# Altium schematic symbol library UP-ROBOT Devices.SchLib: 103 symbols
Pins are listed as number, name and electrical type; pins without a type are passive.

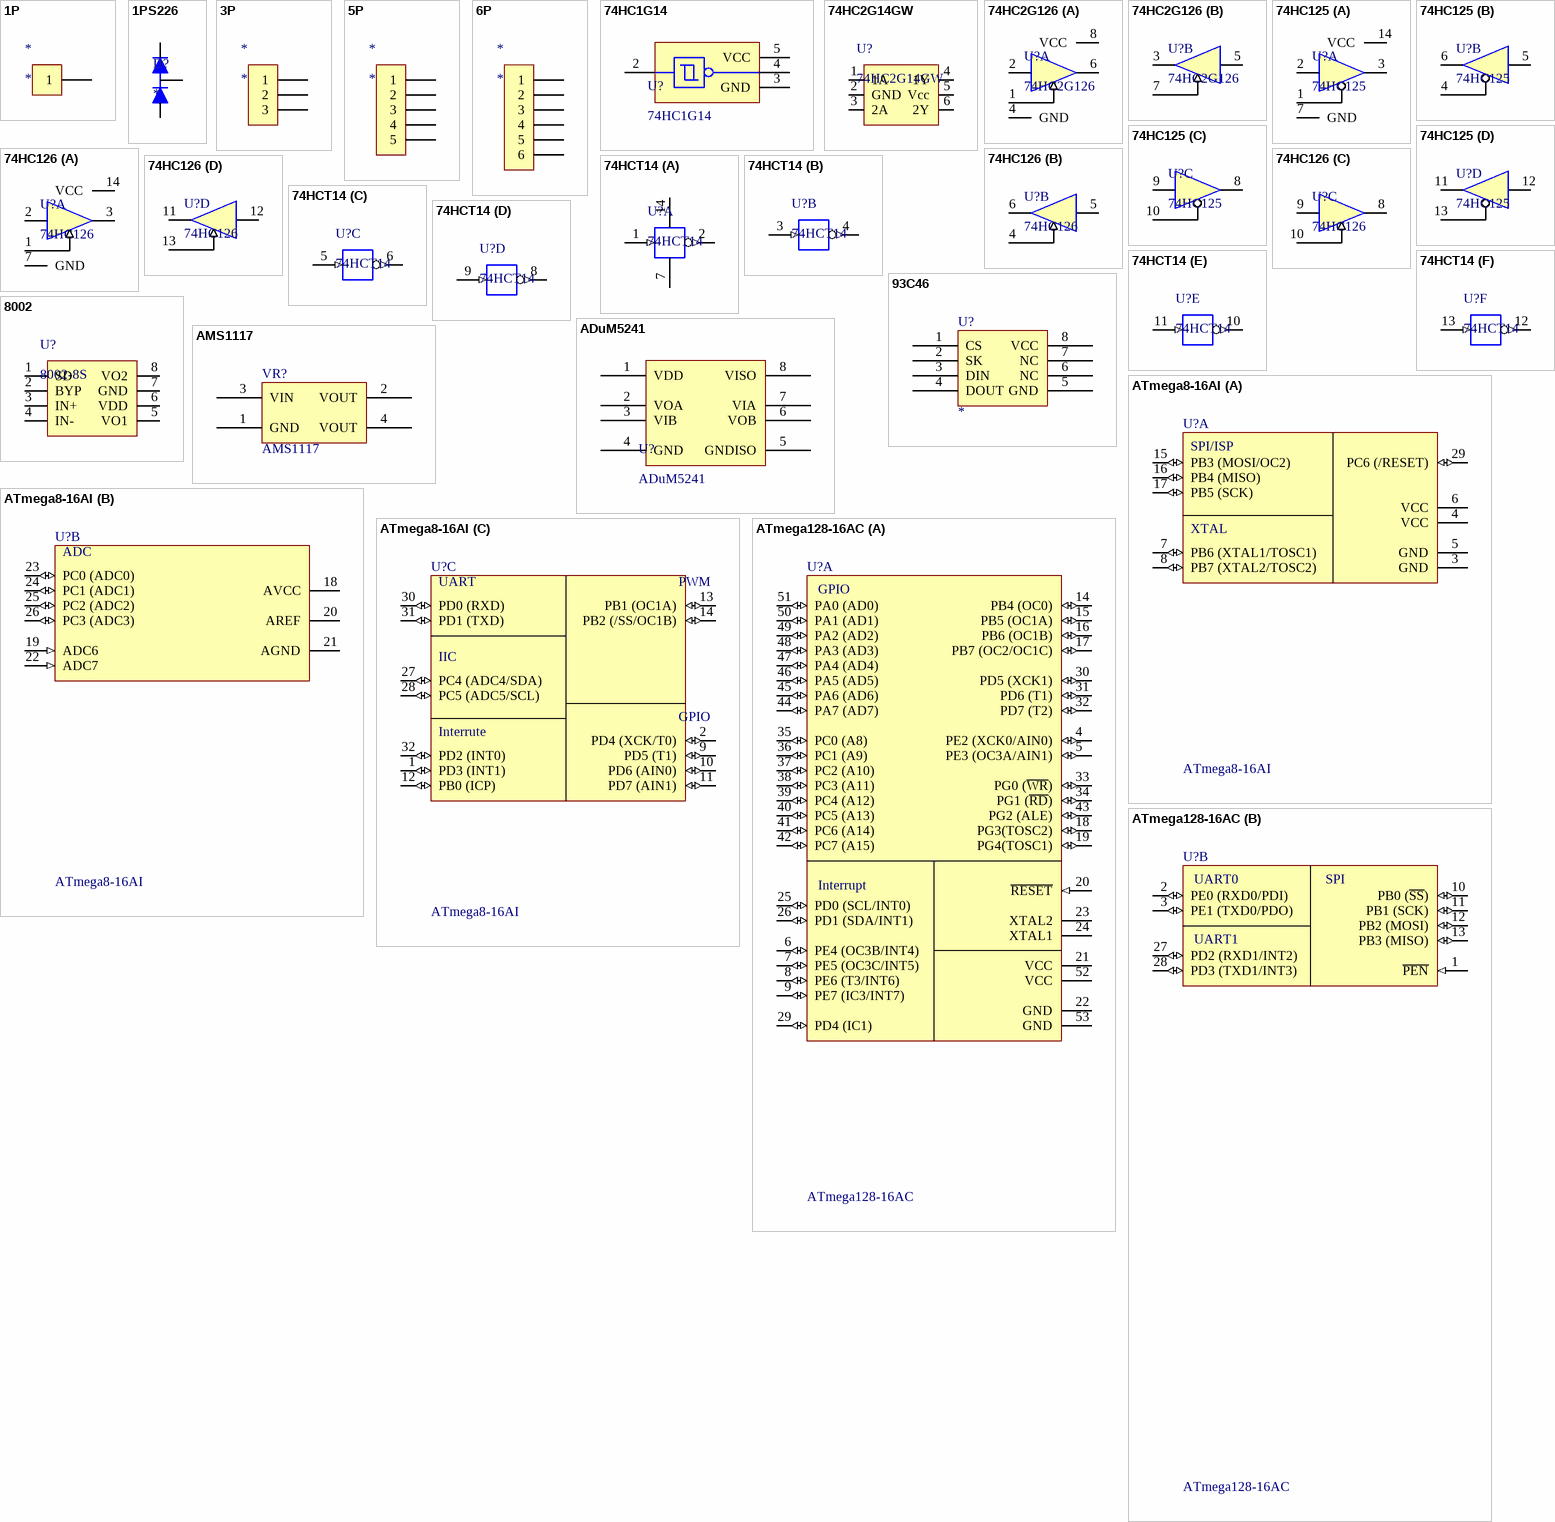
[diagram p0: symbols 1P to ATmega128-16AC]

## 1P
designator *
pins: 1

## 1PS226
designator D?
pins: 1, 2, 3

## 3P
designator *
pins: 1, 2, 3

## 5P
designator *
pins: 1, 2, 3, 4, 5

## 6P
designator *
pins: 1, 2, 3, 4, 5, 6

## 74HC1G14
designator U?
footprint SOT-323-5L
pins: 2 A, 3 GND, 4 Y, 5 VCC

## 74HC2G14GW
designator U?
Dual inverting Schmitt trigger
pins: 1 1A, 2 GND, 3 2A, 4 1Y, 5 Vcc, 6 2Y

## 74HC2G126
designator U?
footprint VSSOP8 (TSSOP, 8-Leads, Body 2.1x2.4mm (max), Pitch 0.50mm, IPC Medium Density)
part A pins: 1 1OE, 2 1A, 4 GND, 6 1Y, 8 VCC
part B pins: 3 2Y, 5 2A, 7 2OE

## 74HC125
designator U?
footprint SOIC014 (Small Outline; 14 Leads; Body Width 3.9 mm; Pitch 1.27 mm)
part A pins: 1 1nOE, 2 1A, 3 1Y, 7 GND, 14 VCC
part B pins: 4 2nOE, 5 2A, 6 2Y
part C pins: 8 3Y, 9 3A, 10 3nOE
part D pins: 11 4Y, 12 4A, 13 4nOE

## 74HC126
designator U?
footprint SOIC014 (Small Outline; 14 Leads; Body Width 3.9 mm; Pitch 1.27 mm)
part A pins: 1 1nOE, 2 1A, 3 1Y, 7 GND, 14 VCC
part B pins: 4 2nOE, 5 2A, 6 2Y
part C pins: 8 3Y, 9 3A, 10 3nOE
part D pins: 11 4Y, 12 4A, 13 4nOE

## 74HCT14
designator U?
Hex inverting Schmitt trigger
part A pins: 1 1A (in), 2 1Y (out), 7 GND, 14 VCC
part B pins: 3 2A (in), 4 2Y (out)
part C pins: 5 3A (in), 6 3Y (out)
part D pins: 8 4Y (out), 9 4A (in)
part E pins: 10 5Y (out), 11 5A (in)
part F pins: 12 6Y (out), 13 6A (in)

## 93C46
designator U?
footprint SOIC008 (Small Outline; 8 Leads; Body Width 3.9 mm; Pitch 1.27 mm)
pins: 1 CS, 2 SK, 3 DIN, 4 DOUT, 5 GND, 6 NC, 7 NC, 8 VCC

## 8002
designator U?, comment 8002-8S
pins: 1 SD, 2 BYP, 3 IN+, 4 IN-, 5 VO1, 6 VDD, 7 GND, 8 VO2

## ADuM5241
designator U?
footprint SOIC008 (Small Outline; 8 Leads; Body Width 3.9 mm; Pitch 1.27 mm)
pins: 1 VDD, 2 VOA, 3 VIB, 4 GND, 5 GNDISO, 6 VOB, 7 VIA, 8 VISO

## AMS1117
designator VR?
Voltage Regulator; Published: 24-Mar-1999; LatestRevisionDate: 17-Jul-2002; LatestRevisionNote: Re-released for DXP Platform.; PackageReference: D2PAK; Publisher: Altium Limited; Code_JEDEC: SMD-220
footprint SOT223 (SOT-223/SC-73; 4 Leads; Body 6.7 x 7.3 mm, inc. leads (LxW max))
pins: 1 GND, 2 VOUT, 3 VIN, 4 VOUT

## ATmega8-16AI
designator U?
8-Bit AVR Microcontroller with 8K Bytes of In-System Programmable Flash Memory; Published: 17-Sep-2003; LatestRevisionDate: 13-Apr-2006; LatestRevisionNote: IPC-7351 Footprint Added.; DatasheetVersion: 2486H-AVR-09/02; PackageVersion: revB, Oct-2001; PackageReference: 32A; Publisher: Altium Limited; PackageDescription: 32-Pin Thin Quad Flat Pack 0.8 mm Pitch; Code_JEDEC: MS-026-ABA; ComponentLink1Description: Manufacturer Link; ComponentLink1URL: http://www.atmel.com; ComponentLink2Description: Datasheet; ComponentLink2URL: http://www.atmel.com/dyn/resources/prod_documents/doc2486.pdf
footprint QFP7X7-32
part A pins: 3 GND (power), 4 VCC (power), 5 GND (power), 6 VCC (power), 7 PB6 (XTAL1/TOSC1) (io), 8 PB7 (XTAL2/TOSC2) (io), 15 PB3 (MOSI/OC2) (io), 16 PB4 (MISO) (io), 17 PB5 (SCK) (io), 29 PC6 (/RESET) (io)
part B pins: 18 AVCC (power), 19 ADC6 (in), 20 AREF, 21 AGND (power), 22 ADC7 (in), 23 PC0 (ADC0) (io), 24 PC1 (ADC1) (io), 25 PC2 (ADC2) (io), 26 PC3 (ADC3) (io)
part C pins: 1 PD3 (INT1) (io), 2 PD4 (XCK/T0) (io), 9 PD5 (T1) (io), 10 PD6 (AIN0) (io), 11 PD7 (AIN1) (io), 12 PB0 (ICP) (io), 13 PB1 (OC1A) (io), 14 PB2 (/SS/OC1B) (io), 27 PC4 (ADC4/SDA) (io), 28 PC5 (ADC5/SCL) (io), 30 PD0 (RXD) (io), 31 PD1 (TXD) (io), 32 PD2 (INT0) (io)
part A text: SPI/ISP; XTAL
part B text: ADC
part C text: UART; PWM; IIC; GPIO; Interrute

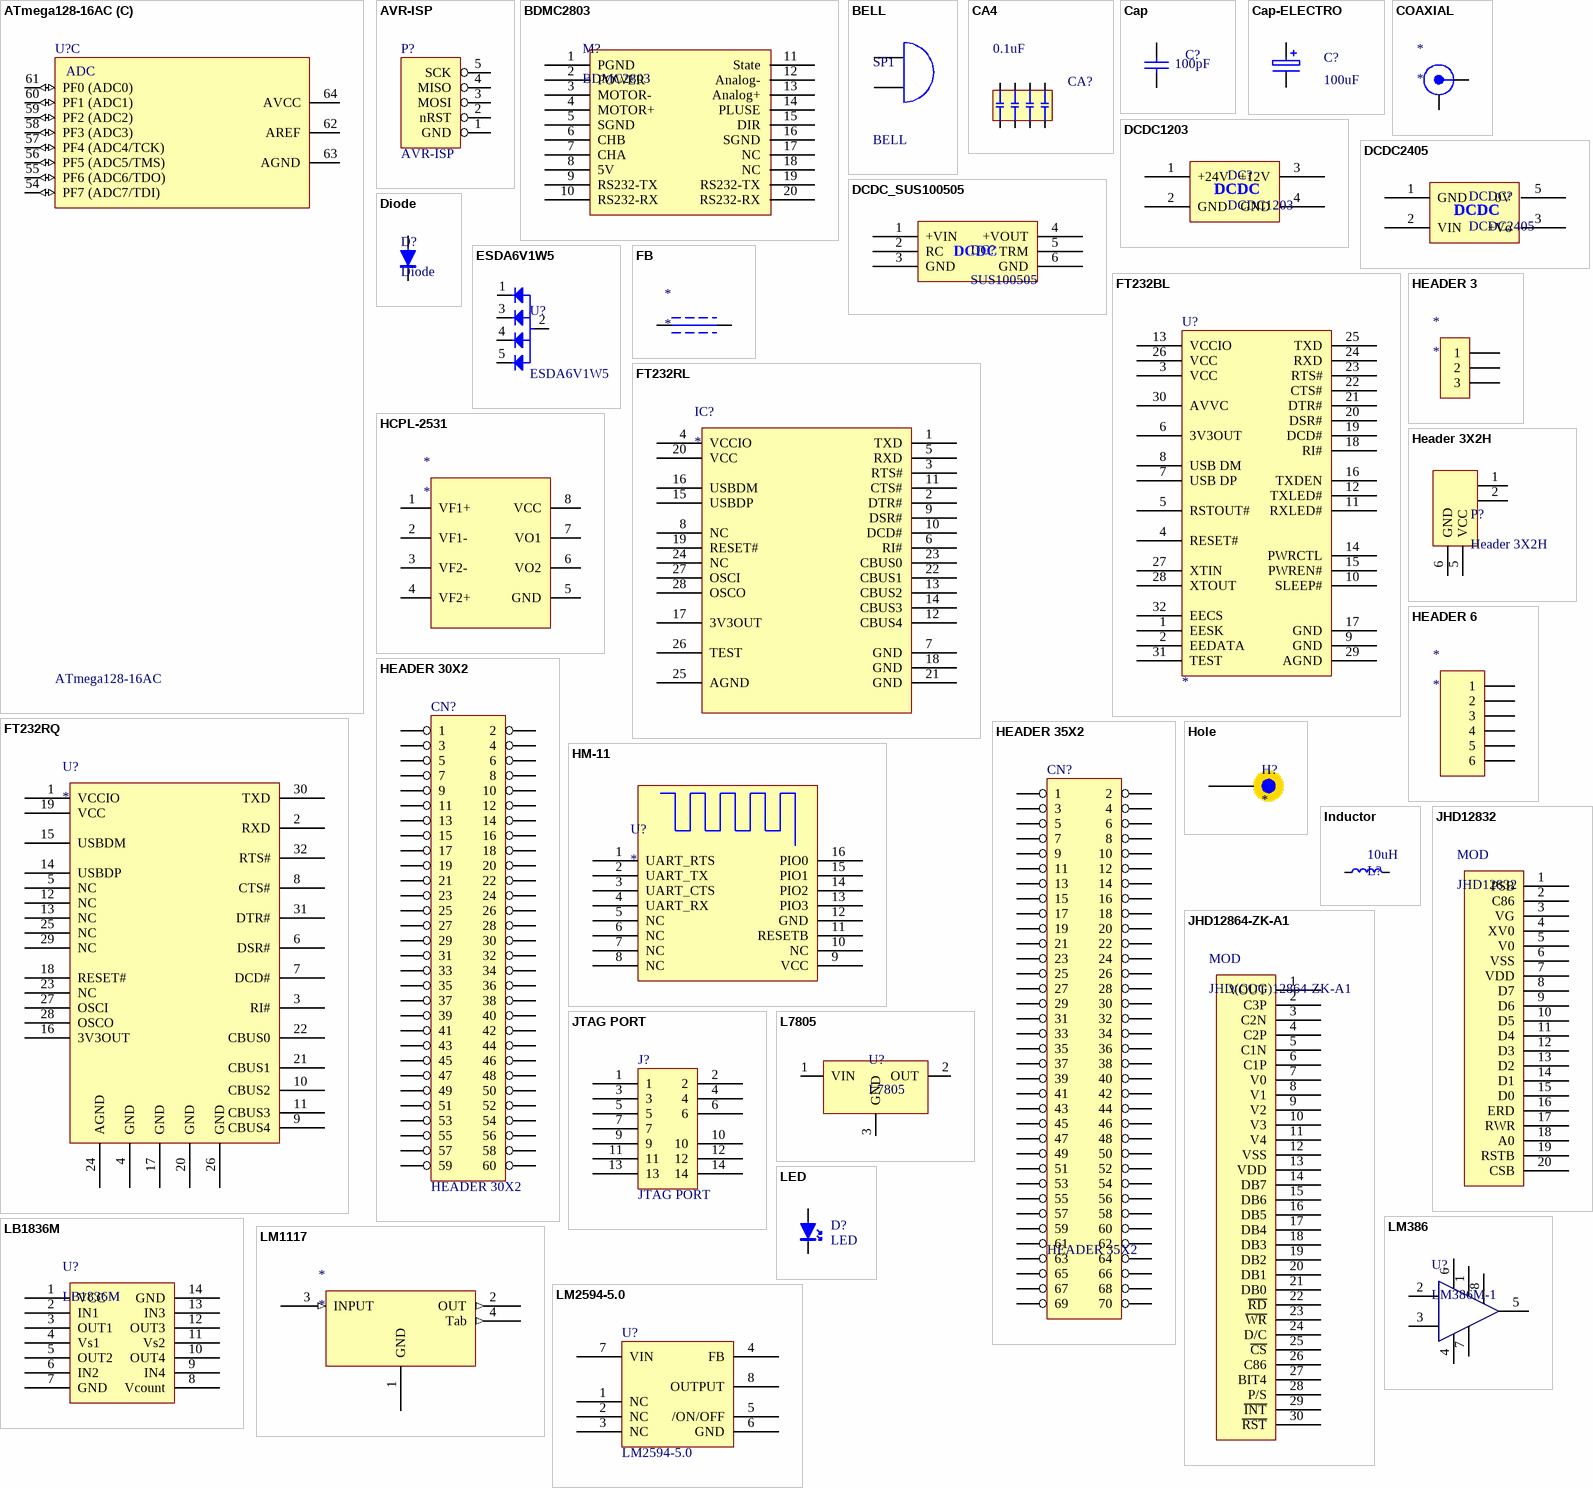
[diagram p1: symbols ATmega128-16AC to LM2594-5.0]

## ATmega128-16AC
designator U?
8-Bit AVR Microcontroller with 128K Bytes of In-System Programmable Flash Memory; PackageDocument: revB, Oct-2001; Published: 17-Sep-2003; LatestRevisionDate: 4-Mar-2005; LatestRevisionNote: Stylized 3D Model Added.; DatasheetDocument: 2467G-AVR-09/02; PackageReference: 64A; Publisher: Altium Limited; Code_JEDEC: MS-026-AEB; ComponentLink1Description: Manufacturer Link; ComponentLink1URL: http://www.atmel.com; ComponentLink2Description: Datasheet; ComponentLink2URL: http://www.atmel.com/dyn/resources/prod_documents/doc2467.pdf
footprint QFP14X14-64
part A pins: 4 PE2 (XCK0/AIN0) (io), 5 PE3 (OC3A/AIN1) (io), 6 PE4 (OC3B/INT4) (io), 7 PE5 (OC3C/INT5) (io), 8 PE6 (T3/INT6) (io), 9 PE7 (IC3/INT7) (io), 14 PB4 (OC0) (io), 15 PB5 (OC1A) (io), 16 PB6 (OC1B) (io), 17 PB7 (OC2/OC1C) (io), 18 PG3(TOSC2) (io), 19 PG4(TOSC1) (io), 20 ~{RESET} (in), 21 VCC (power), 22 GND (power), 23 XTAL2, 24 XTAL1, 25 PD0 (SCL/INT0) (io), 26 PD1 (SDA/INT1) (io), 29 PD4 (IC1) (io), 30 PD5 (XCK1) (io), 31 PD6 (T1) (io), 32 PD7 (T2) (io), 33 PG0 (~{WR}) (io), 34 PG1 (~{RD}) (io), 35 PC0 (A8) (io), 36 PC1 (A9) (io), 37 PC2 (A10) (io), 38 PC3 (A11) (io), 39 PC4 (A12) (io), 40 PC5 (A13) (io), 41 PC6 (A14) (io), 42 PC7 (A15) (io), 43 PG2 (ALE) (io), 44 PA7 (AD7) (io), 45 PA6 (AD6) (io), 46 PA5 (AD5) (io), 47 PA4 (AD4) (io), 48 PA3 (AD3) (io), 49 PA2 (AD2) (io), 50 PA1 (AD1) (io), 51 PA0 (AD0) (io), 52 VCC (power), 53 GND (power)
part B pins: 1 ~{PEN} (in), 2 PE0 (RXD0/PDI) (io), 3 PE1 (TXD0/PDO) (io), 10 PB0 (~{SS}) (io), 11 PB1 (SCK) (io), 12 PB2 (MOSI) (io), 13 PB3 (MISO) (io), 27 PD2 (RXD1/INT2) (io), 28 PD3 (TXD1/INT3) (io)
part C pins: 54 PF7 (ADC7/TDI) (io), 55 PF6 (ADC6/TDO) (io), 56 PF5 (ADC5/TMS) (io), 57 PF4 (ADC4/TCK) (io), 58 PF3 (ADC3) (io), 59 PF2 (ADC2) (io), 60 PF1 (ADC1) (io), 61 PF0 (ADC0) (io), 62 AREF, 63 AGND (power), 64 AVCC (power)
part A text: GPIO; Interrupt
part B text: UART0; SPI; UART1
part C text: ADC

## AVR-ISP
designator P?
footprint AVR - ISP (Connector; Header; 5 Position)
pins: 1 GND, 2 nRST, 3 MOSI, 4 MISO, 5 SCK

## BDMC2803
designator M?
footprint BDMC2803
pins: 1 PGND, 2 POWER, 3 MOTOR-, 4 MOTOR+, 5 SGND, 6 CHB, 7 CHA, 8 5V, 9 RS232-TX, 10 RS232-RX, 11 State, 12 Analog-, 13 Analog+, 14 PLUSE, 15 DIR, 16 SGND, 17 NC, 18 NC, 19 RS232-TX, 20 RS232-RX

## BELL
designator SP1
footprint BEEP7.6-12X10-0.8
pins: 1 A, 2 B

## CA4
designator CA?, comment 0.1uF
footprint C0603 - 4D
pins: 1, 2, 3, 4, 5, 6, 7, 8

## Cap
designator C?, comment 100pF
Capacitor; Published: 8-Jun-2000; LatestRevisionDate: 17-Jul-2002; LatestRevisionNote: Re-released for DXP Platform.; PackageReference: RAD-0.3; Publisher: Altium Limited; Value: 100pF
footprint C0603
simulation model CAP (Capacitor)
signal-integrity model Cap
footprint C0603-W
footprint C0805
footprint C0805-W
footprint C1206
footprint C1210
footprint C1812
footprint C1825
pins: 1, 2

## Cap-ELECTRO
designator C?, comment 100uF
Electrolytic Capacitor
footprint CT7343-D
footprint CT3216-A
footprint CT3528-B
footprint CT6032-C
footprint CT7343-E
pins: 1, 2

## COAXIAL
designator *
pins: 1, 2

## DCDC1203
designator DC?
footprint DCDC1203
pins: 1 +24V, 2 GND, 3 +12V, 4 GND
text: DCDC

## DCDC2405
designator DCDC?
footprint WRB2405D-10W
pins: 1 GND, 2 VIN, 3 +Vo, 5 0V
text: DCDC

## DCDC_SUS100505
designator DC?, comment SUS100505
footprint DCDC_SUS100505
pins: 1 +VIN, 2 RC, 3 GND, 4 +VOUT, 5 TRM, 6 GND
text: DCDC

## Diode
designator D?
footprint SMA
footprint SMB
footprint SMC
footprint SOD-80
pins: 1 A, 2 K

## ESDA6V1W5
designator U?
ESD
footprint SOT-23
pins: 1, 2, 3, 4, 5

## FB
designator *
pins: 1, 2

## FT232BL
designator U?
footprint QFP032 (QFP; 32 Leads; Body 7 x 7 mm; Pitch 0.8 mm)
pins: 1 EESK, 2 EEDATA, 3 VCC, 4 RESET#, 5 RSTOUT#, 6 3V3OUT, 7 USB DP, 8 USB DM, 9 GND, 10 SLEEP#, 11 RXLED#, 12 TXLED#, 13 VCCIO, 14 PWRCTL, 15 PWREN#, 16 TXDEN, 17 GND, 18 RI#, 19 DCD#, 20 DSR#, 21 DTR#, 22 CTS#, 23 RTS#, 24 RXD, 25 TXD, 26 VCC, 27 XTIN, 28 XTOUT, 29 AGND, 30 AVVC, 31 TEST, 32 EECS

## FT232RL
designator IC?
FT232RL
footprint SSOP-28
pins: 1 TXD, 2 DTR#, 3 RTS#, 4 VCCIO, 5 RXD, 6 RI#, 7 GND, 8 NC, 9 DSR#, 10 DCD#, 11 CTS#, 12 CBUS4, 13 CBUS2, 14 CBUS3, 15 USBDP, 16 USBDM, 17 3V3OUT, 18 GND, 19 RESET#, 20 VCC, 21 GND, 22 CBUS1, 23 CBUS0, 24 NC, 25 AGND, 26 TEST, 27 OSCI, 28 OSCO

## FT232RQ
designator U?
pins: 1 VCCIO, 2 RXD, 3 RI#, 4 GND, 5 NC, 6 DSR#, 7 DCD#, 8 CTS#, 9 CBUS4, 10 CBUS2, 11 CBUS3, 12 NC, 13 NC, 14 USBDP, 15 USBDM, 16 3V3OUT, 17 GND, 18 RESET#, 19 VCC, 20 GND, 21 CBUS1, 22 CBUS0, 23 NC, 24 AGND, 25 NC, 26 GND, 27 OSCI, 28 OSCO, 29 NC, 30 TXD, 31 DTR#, 32 RTS#

## HCPL-2531
designator *
pins: 1 VF1+, 2 VF1-, 3 VF2-, 4 VF2+, 5 GND, 6 VO2, 7 VO1, 8 VCC

## HEADER 3
designator *
pins: 1, 2, 3

## Header 3X2H
designator P?
卧式三排插针
footprint HDR3X4H (Connector; Header; 4x2 Position; Right Angle)
pins: 1, 2, 5 VCC, 6 GND

## HEADER 6
designator *
pins: 1, 2, 3, 4, 5, 6

## HEADER 30X2
designator CN?
footprint IDC2.0-60
pins: 1, 2, 3, 4, 5, 6, 7, 8, 9, 10, 11, 12, 13, 14, 15, 16, 17, 18, 19, 20, 21, 22, 23, 24, 25, 26, 27, 28, 29, 30, 31, 32, 33, 34, 35, 36, 37, 38, 39, 40, 41, 42, 43, 44, 45, 46, 47, 48, 49, 50, 51, 52, 53, 54, 55, 56, 57, 58, 59, 60

## HEADER 35X2
designator CN?
footprint IDC2.0-60
pins: 1, 2, 3, 4, 5, 6, 7, 8, 9, 10, 11, 12, 13, 14, 15, 16, 17, 18, 19, 20, 21, 22, 23, 24, 25, 26, 27, 28, 29, 30, 31, 32, 33, 34, 35, 36, 37, 38, 39, 40, 41, 42, 43, 44, 45, 46, 47, 48, 49, 50, 51, 52, 53, 54, 55, 56, 57, 58, 59, 60, 61, 62, 63, 64, 65, 66, 67, 68, 69, 70

## HM-11
designator U?
Bluetooth4.0 HM-11
footprint HM-11 (Bluetooth4.0 HM-11)
pins: 1 UART_RTS, 2 UART_TX, 3 UART_CTS, 4 UART_RX, 5 NC, 6 NC, 7 NC, 8 NC, 9 VCC, 10 NC, 11 RESETB, 12 GND, 13 PIO3, 14 PIO2, 15 PIO1, 16 PIO0

## Hole
designator H?
pins: 1 0

## Inductor
designator L?, comment 10uH
Inductor; Code_IEC: 1005; Published: 8-Jun-2000; LatestRevisionDate: 17-Jul-2002; LatestRevisionNote: Re-released for DXP Platform.; PackageReference: 0402-A; Publisher: Altium Limited; Code_JEITA: 0402; Value: 10uH
simulation model INDUCTOR (Inductor)
signal-integrity model Inductor
footprint L5050-P
footprint L0805-C
footprint L0603-C
pins: 1, 2

## JHD12832
designator MOD
JHD12832 128x32LCD MOD
pins: 1 PSB, 2 C86, 3 VG, 4 XV0, 5 V0, 6 VSS, 7 VDD, 8 D7, 9 D6, 10 D5, 11 D4, 12 D3, 13 D2, 14 D1, 15 D0, 16 ERD, 17 RWR, 18 A0, 19 RSTB, 20 CSB

## JHD12864-ZK-A1
designator MOD, comment JHD(COG)12864-ZK-A1
JHD12832 128x64LCD MOD
pins: 1 VOUT, 2 C3P, 3 C2N, 4 C2P, 5 C1N, 6 C1P, 7 V0, 8 V1, 9 V2, 10 V3, 11 V4, 12 VSS, 13 VDD, 14 DB7, 15 DB6, 16 DB5, 17 DB4, 18 DB3, 19 DB2, 20 DB1, 21 DB0, 22 ~{RD}, 23 ~{WR}, 24 D/C, 25 ~{CS}, 26 C86, 27 BIT4, 28 P/S, 29 ~{INT}, 30 ~{RST}

## JTAG PORT
designator J?
footprint JTAG
pins: 1, 2, 3, 4, 5, 6, 7, 9, 10, 11, 12, 13, 14

## L7805
designator U?
footprint D2PAK-L7805 (LM2576\2596)
pins: 1 VIN, 2 OUT, 3 GND

## LB1836M
designator U?
DC Moto H-Brighe
pins: 1 VCC, 2 IN1, 3 OUT1, 4 Vs1, 5 OUT2, 6 IN2, 7 GND, 8 Vcount, 9 IN4, 10 OUT4, 11 Vs2, 12 OUT3, 13 IN3, 14 GND

## LED
designator D?
footprint LED0805
footprint LED1206
pins: 1 A, 2 K

## LM386
designator U?, comment LM386M-1
Low Voltage Audio Power Amplifier
footprint SOIC8
pins: 1 GAIN, 2 -IN, 3 +IN, 4 GND, 5 Vount, 6 Vs, 7 BYPASS, 8 GAIN

## LM1117
designator *
footprint SOT-223
pins: 1 GND (power), 2 OUT (out), 3 INPUT (in), 4 Tab (out)

## LM2594-5.0
designator U?
footprint SOIC008 (Small Outline; 8 Leads; Body Width 3.9 mm; Pitch 1.27 mm)
pins: 1 NC, 2 NC, 3 NC, 4 FB, 5 /ON/OFF, 6 GND, 7 VIN, 8 OUTPUT

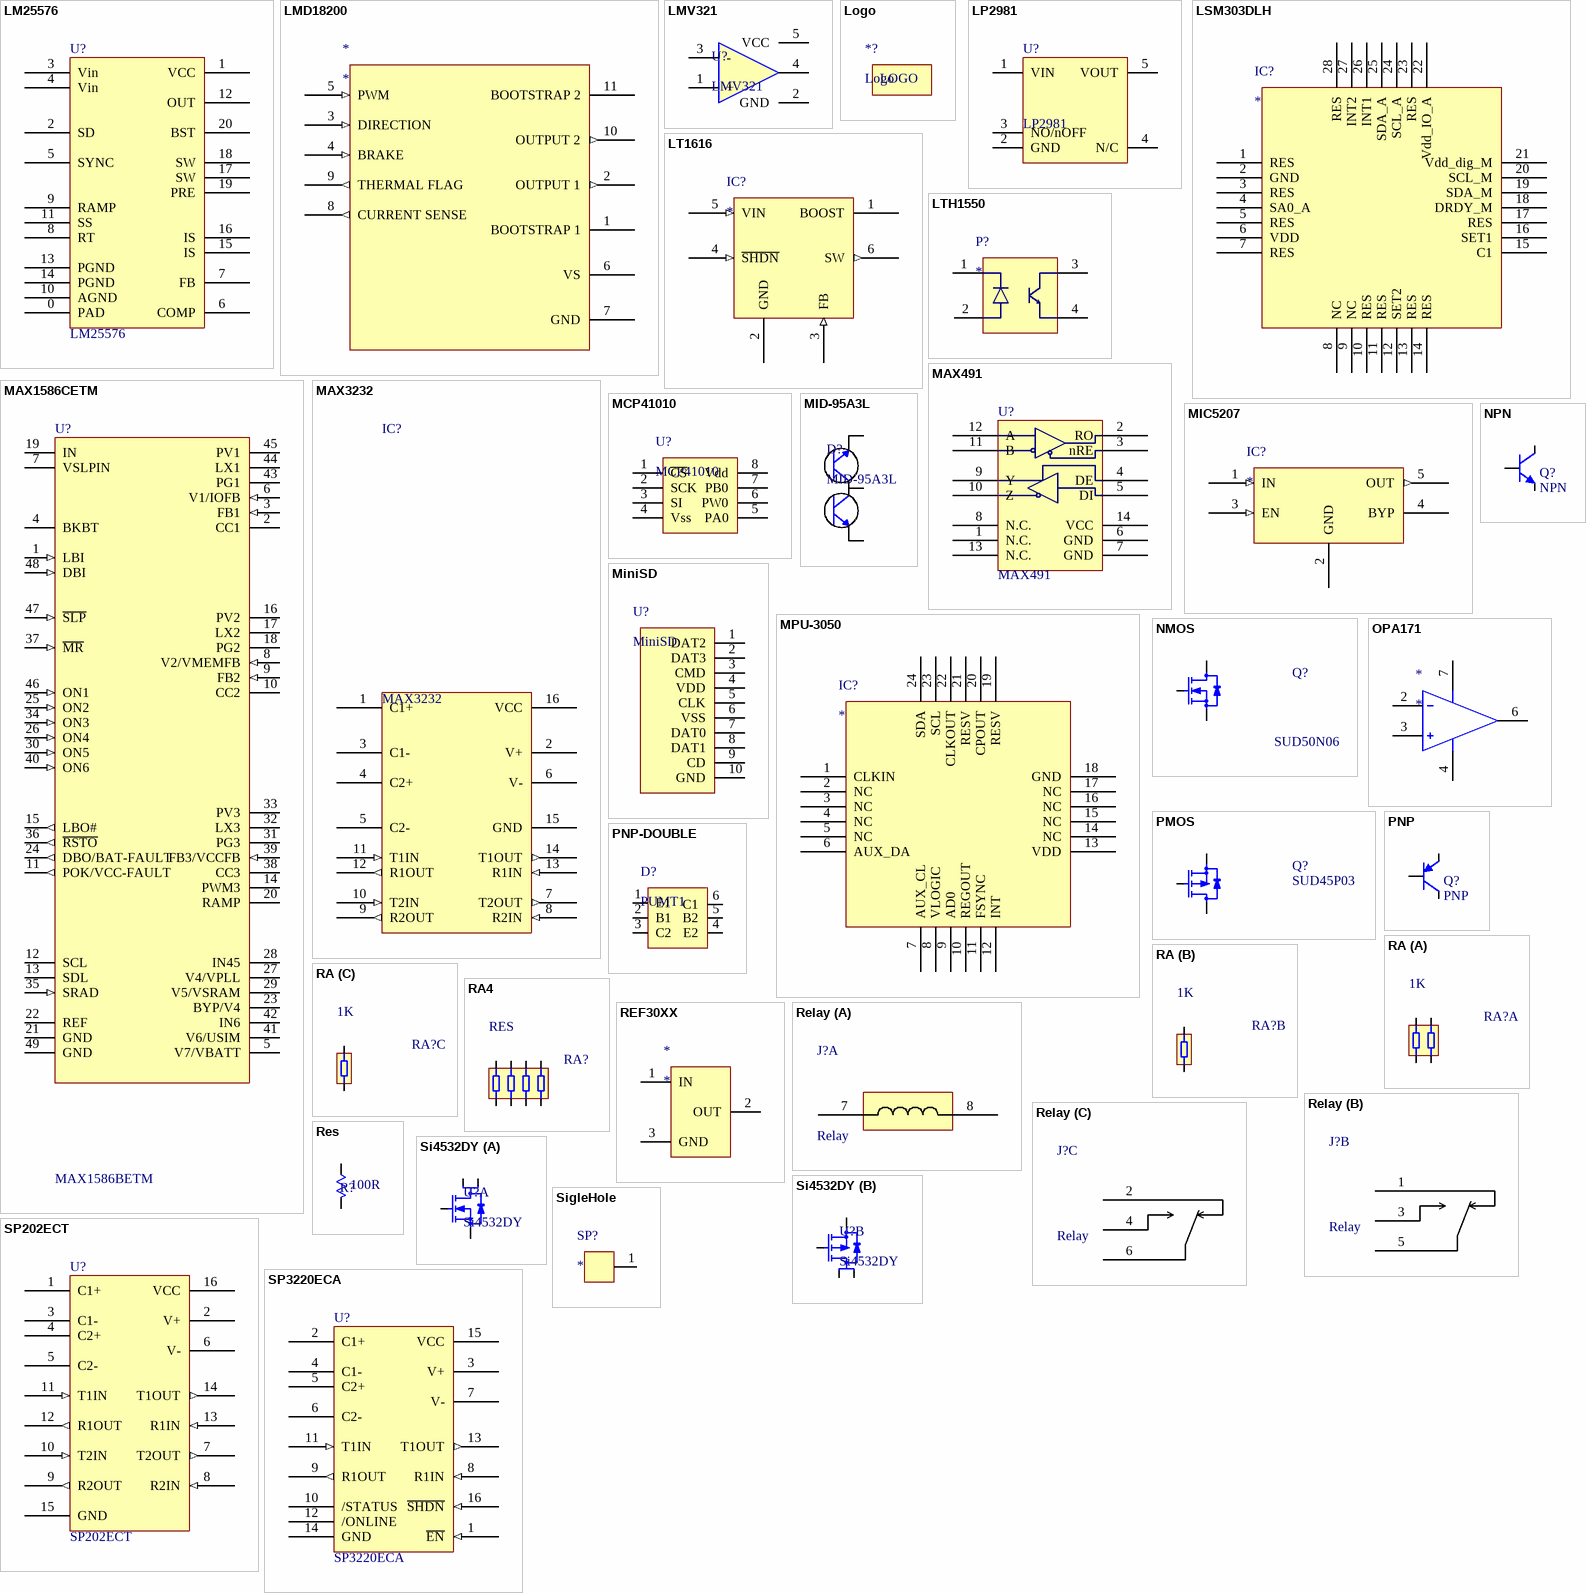
[diagram p2: symbols LM25576 to SP3220ECA]

## LM25576
designator U?
footprint TSSO6X6-G20/P.65PAD
pins: 0 PAD, 1 VCC, 2 SD, 3 Vin, 4 Vin, 5 SYNC, 6 COMP, 7 FB, 8 RT, 9 RAMP, 10 AGND, 11 SS, 12 OUT, 13 PGND, 14 PGND, 15 IS, 16 IS, 17 SW, 18 SW, 19 PRE, 20 BST

## LMD18200
designator *
pins: 1 BOOTSTRAP 1, 2 OUTPUT 1 (out), 3 DIRECTION (in), 4 BRAKE (in), 5 PWM (in), 6 VS (power), 7 GND (power), 8 CURRENT SENSE (out), 9 THERMAL FLAG (out), 10 OUTPUT 2 (out), 11 BOOTSTRAP 2

## LMV321
designator U?
LOW-VOLTAGE RAIL-TO-RAIL OUTPUT OPERATIONAL AMPLIFIERS
footprint SOT-323-5L
pins: 1 +, 2 GND, 3 -, 4 OUT, 5 VCC

## Logo
designator *?
text: LOGO

## LP2981
designator U?
Low Dropout Voltage Regulator; Published: 24-Mar-1999; LatestRevisionDate: 17-Jul-2002; LatestRevisionNote: Re-released for DXP Platform.; PackageReference: SOT23; Publisher: Altium Limited; Code_JEDEC: SMD-220
footprint SOT-23-5L (SOT23, 5-Leads, Body 3.0x3.0mm (max), Pitch 0.95mm, IPC Medium Density)
pins: 1 VIN, 2 GND, 3 NO/nOFF, 4 N/C, 5 VOUT

## LSM303DLH
designator IC?
LSM303DLH
footprint QFN-28 (QFN, 28-Leads, Body 5x5mm, Pitch 0.5mm, IPC Low Density)
pins: 1 RES, 2 GND, 3 RES, 4 SA0_A, 5 RES, 6 VDD, 7 RES, 8 NC, 9 NC, 10 RES, 11 RES, 12 SET2, 13 RES, 14 RES, 15 C1, 16 SET1, 17 RES, 18 DRDY_M, 19 SDA_M, 20 SCL_M, 21 Vdd_dig_M, 22 Vdd_IO_A, 23 RES, 24 SCL_A, 25 SDA_A, 26 INT1, 27 INT2, 28 RES

## LT1616
designator IC?
LT1616
footprint SOT23-6
pins: 1 BOOST, 2 GND (power), 3 FB (in), 4 ~{SHDN} (in), 5 VIN (in), 6 SW (out)

## LTH1550
designator P?
footprint LTH1550
pins: 1, 2, 3, 4

## MAX491
designator U?
footprint SOIC014 (Small Outline; 14 Leads; Body Width 3.9 mm; Pitch 1.27 mm)
pins: 1 N.C., 2 RO, 3 nRE, 4 DE, 5 DI, 6 GND, 7 GND, 8 N.C., 9 Y, 10 Z, 11 B, 12 A, 13 N.C., 14 VCC
2 alternate drawings of the same symbol

## MAX1586CETM
designator U?, comment MAX1586BETM
PXA270 PowerIC; Published: Art Daipanwen
footprint QFN50P700X700X80-48N (QFN, 48-Leads, Body 7.1x7.1mm (max), Pitch 0.50mm, IPC Medium Density)
pins: 1 LBI (in), 2 CC1, 3 FB1 (in), 4 BKBT (power), 5 V7/VBATT, 6 V1/IOFB (in), 7 VSLPIN (power), 8 V2/VMEMFB (in), 9 FB2 (in), 10 CC2, 11 POK/VCC-FAULT (out), 12 SCL, 13 SDL, 14 PWM3, 15 LBO# (out), 16 PV2 (power), 17 LX2, 18 PG2 (power), 19 IN, 20 RAMP, 21 GND, 22 REF, 23 BYP/V4, 24 DBO/BAT-FAULT (out), 25 ON2 (in), 26 ON4 (in), 27 V4/VPLL, 28 IN45, 29 V5/VSRAM, 30 ON5 (in), 31 PG3 (power), 32 LX3, 33 PV3 (power), 34 ON3 (in), 35 SRAD (in), 36 ~{RSTO} (out), 37 ~{MR} (in), 38 CC3, 39 FB3/VCCFB (in), 40 ON6 (in), 41 V6/USIM, 42 IN6, 43 PG1 (power), 44 LX1, 45 PV1 (power), 46 ON1 (in), 47 ~{SLP} (in), 48 DBI (in), 49 GND (power)

## MAX3232
designator IC?
footprint TSSOP-16
pins: 1 C1+, 2 V+, 3 C1-, 4 C2+, 5 C2-, 6 V-, 7 T2OUT (out), 8 R2IN (in), 9 R2OUT (out), 10 T2IN (in), 11 T1IN (in), 12 R1OUT (out), 13 R1IN (in), 14 T1OUT (out), 15 GND (power), 16 VCC (power)

## MCP41010
designator U?
Digital Potentiometer
footprint SOIC8
pins: 1 ~{CS}, 2 SCK, 3 SI, 4 Vss, 5 PA0, 6 PW0, 7 PB0, 8 Vdd

## MIC5207
designator IC?
MIC5207
footprint SOT23-5
pins: 1 IN (in), 2 GND (power), 3 EN (in), 4 BYP, 5 OUT (out)

## MID-95A3L
designator D?
Dual side look package npn photoransistor
pins: 1, 2, 3

## MiniSD
designator U?
pins: 1 DAT2, 2 DAT3, 3 CMD, 4 VDD, 5 CLK, 6 VSS, 7 DAT0, 8 DAT1, 9 CD, 10 GND

## MPU-3050
designator IC?
MPU-3050
footprint QFN-24
pins: 1 CLKIN, 2 NC, 3 NC, 4 NC, 5 NC, 6 AUX_DA, 7 AUX_CL, 8 VLOGIC, 9 AD0, 10 REGOUT, 11 FSYNC, 12 INT, 13 VDD, 14 NC, 15 NC, 16 NC, 17 NC, 18 GND, 19 RESV, 20 CPOUT, 21 RESV, 22 CLKOUT, 23 SCL, 24 SDA

## NMOS
designator Q?, comment SUD50N06
N-Channel 60-V (D-S), 175 C MOSFET
footprint D2-PAK
footprint D-PAK
pins: 1 G, 2 D, 3 S

## NPN
designator Q?
NPN General Purpose Amplifier; Published: 8-Jun-2000; LatestRevisionDate: 15-Jan-2003; LatestRevisionNote: PCB Footprint 'BCY-W3/D4.7' replaced; DatasheetDocument: 1997; PackageDocument: Sep-1998; PackageReference: TO-92A; Publisher: Altium Limited; Code_JEDEC: TO-92A; ComponentLink1Description: Manufacturer Link; ComponentLink1URL: http://www.fairchildsemi.com/; ComponentLink2Description: Datasheet; ComponentLink2URL: http://www.fairchildsemi.com/ds/2N%2F2N3904.pdf
footprint SOT-23
simulation model 2N3904 (NPN)
signal-integrity model 2N3904
pins: 1 B, 2 E, 3 C

## OPA171
designator *
pins: 2 -IN, 3 +IN, 4 V-, 6 OUT, 7 V+

## PMOS
designator Q?, comment SUD45P03
P-Channel 30-V (D-S), 150 C MOSFET
footprint D2PAK (D2-PAK/TO-263-AB; 3 Leads (1 Cropped); Body 15.5 (inc. leads) x 10.5 mm (LxW max))
footprint D-PAK (Footprint not found)
pins: 1 G, 2 D, 3 S

## PNP
designator Q?
PNP General Purpose Amplifier; Published: 8-Jun-2000; LatestRevisionDate: 15-Jan-2003; LatestRevisionNote: PCB Footprint 'BCY-W3/D4.7' replaced; DatasheetDocument: 1997; PackageDocument: Sep-1998; PackageReference: TO-92A; Publisher: Altium Limited; Code_JEDEC: TO-92A; ComponentLink1Description: Manufacturer Link; ComponentLink1URL: http://www.fairchildsemi.com/; ComponentLink2Description: Datasheet; ComponentLink2URL: http://www.fairchildsemi.com/ds/2N%2F2N3906.pdf
footprint SOT-23
simulation model 2N3906 (PNP)
signal-integrity model 2N3906
pins: 1 B, 2 E, 3 C

## PNP-DOUBLE
designator D?, comment PUMT1
pnp general purpose double transistor
pins: 1 E1, 2 B1, 3 C2, 4 E2, 5 B2, 6 C1

## RA
designator RA?, comment 1K
footprint R0603 - 4D
part A pins: 1, 2, 3, 4
part B pins: 5, 6
part C pins: 7, 8

## RA4
designator RA?, comment RES
footprint R0603 - 4D
pins: 1, 2, 3, 4, 5, 6, 7, 8

## REF30XX
designator *
pins: 1 IN, 2 OUT, 3 GND

## Relay
designator J?
footprint Relay_LY2NJ
part A pins: 7, 8
part B pins: 1, 3, 5
part C pins: 2, 4, 6

## Res
designator R?, comment 100R
Resistor; Published: 8-Jun-2000; LatestRevisionDate: 17-Jul-2002; LatestRevisionNote: Re-released for DXP Platform.; PackageReference: AXIAL-0.3; Publisher: Altium Limited; Value: 100R
footprint R0603
simulation model RESISTOR (Resistor)
signal-integrity model Res
footprint R0603-W
footprint R0805
footprint R0805-W
footprint R1206
footprint R1206-W
footprint R1210
footprint R2010
footprint R2512
pins: 1, 2

## Si4532DY
designator U?
Dual N- and P-Channel Enhancement Mode Field Effect Transistor
footprint SO8-150
part A pins: 1 S1, 2 G1, 7 D1, 8 D1
part B pins: 3 S2, 4 G2, 5 D2, 6 D2

## SigleHole
designator SP?
pins: 1

## SP202ECT
designator U?
footprint SOIC16 (Small Outline; 16 Leads; Body Width 3.9 mm; Pitch 1.27 mm)
pins: 1 C1+, 2 V+, 3 C1-, 4 C2+, 5 C2-, 6 V-, 7 T2OUT (out), 8 R2IN (in), 9 R2OUT (out), 10 T2IN (in), 11 T1IN (in), 12 R1OUT (out), 13 R1IN (in), 14 T1OUT (out), 15 GND, 16 VCC

## SP3220ECA
designator U?
footprint SSOP16 (SSOP; 16 Leads; Body Width 5.3 mm; Pitch 0.65 mm)
pins: 1 ~{EN} (in), 2 C1+, 3 V+, 4 C1-, 5 C2+, 6 C2-, 7 V-, 8 R1IN (in), 9 R1OUT (out), 10 /STATUS, 11 T1IN (in), 12 /ONLINE, 13 T1OUT (out), 14 GND, 15 VCC, 16 ~{SHDN} (in)

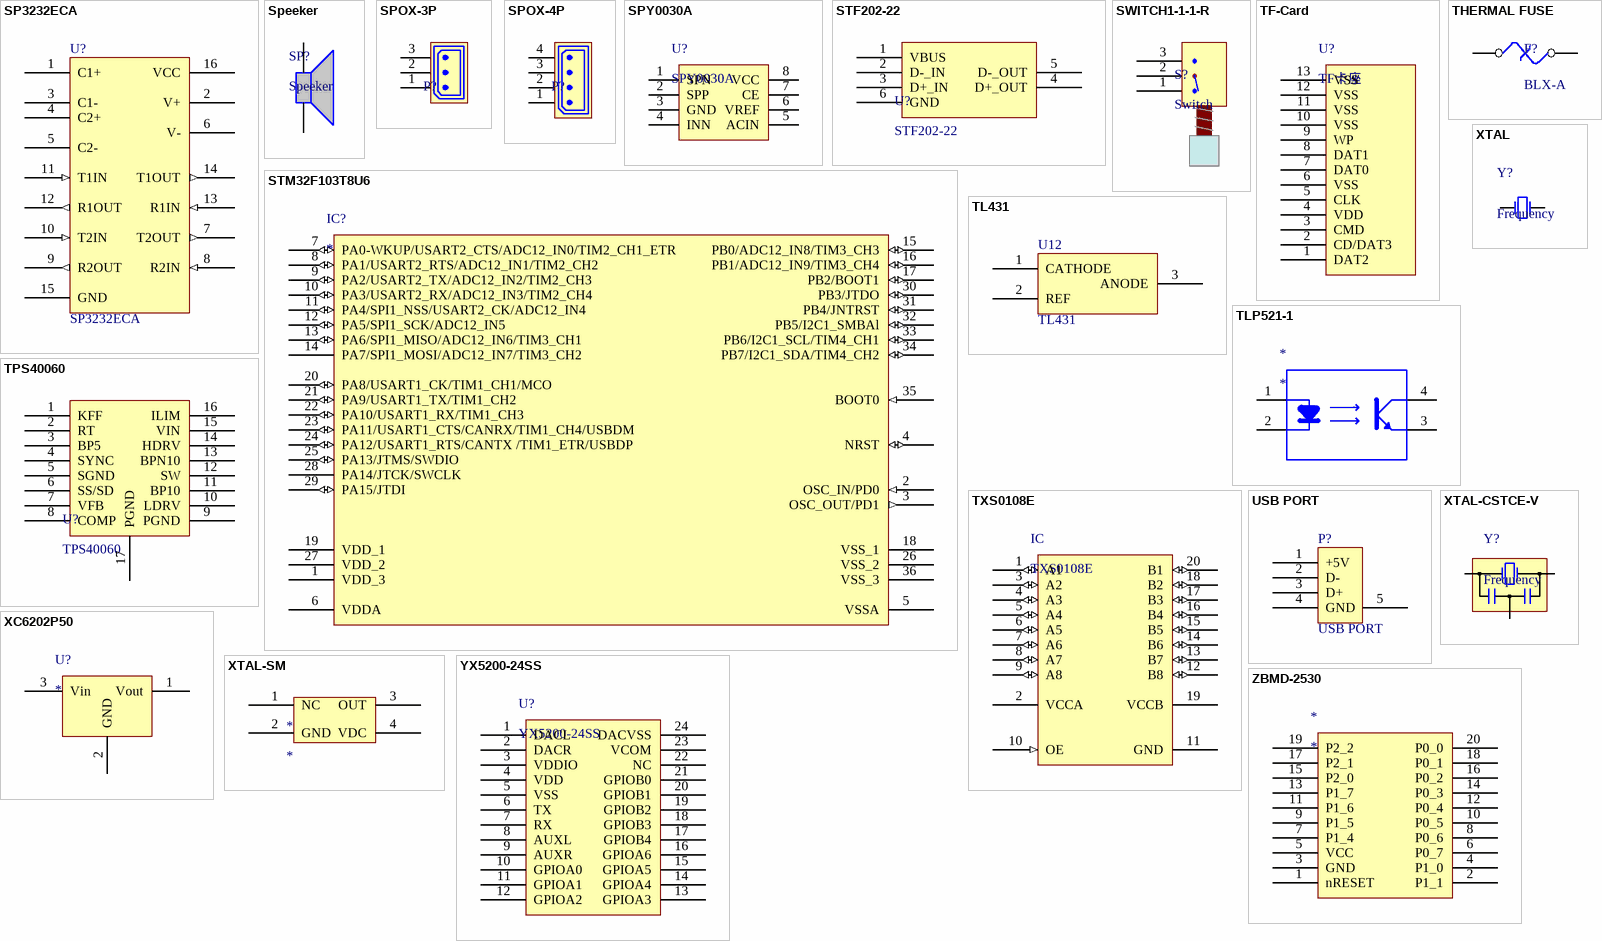
[diagram p3: symbols SP3232ECA to ZBMD-2530]

## SP3232ECA
designator U?
footprint SSOP16 (SSOP; 16 Leads; Body Width 5.3 mm; Pitch 0.65 mm)
pins: 1 C1+, 2 V+, 3 C1-, 4 C2+, 5 C2-, 6 V-, 7 T2OUT (out), 8 R2IN (in), 9 R2OUT (out), 10 T2IN (in), 11 T1IN (in), 12 R1OUT (out), 13 R1IN (in), 14 T1OUT (out), 15 GND, 16 VCC

## Speeker
designator SP?
pins: 1, 2

## SPOX-3P
designator P?  (value not drawn)
2.50mm (.098") Pitch SPOX? Wire-to-Board Header, Vertical, Shrouded, 3 Circuits, Tin (Sn) Plating
footprint SPOX-3P
footprint SPOX-3P-H
pins: 1, 2, 3

## SPOX-4P
designator P?  (value not drawn)
footprint SPOX-4P
footprint SPOX-4P-H
pins: 1, 2, 3, 4

## SPY0030A
designator U?
pins: 1 SPN, 2 SPP, 3 GND, 4 INN, 5 ACIN, 6 VREF, 7 CE, 8 VCC

## STF202-22
designator U?
footprint SOT23-6
pins: 1 VBUS, 2 D-_IN, 3 D+_IN, 4 D+_OUT, 5 D-_OUT, 6 GND

## STM32F103T8U6
designator IC?
STM32F103T8
footprint QFN-36
pins: 1 VDD_3, 2 OSC_IN/PD0 (in), 3 OSC_OUT/PD1 (out), 4 NRST (io), 5 VSSA, 6 VDDA, 7 PA0-WKUP/USART2_CTS/ADC12_IN0/TIM2_CH1_ETR (io), 8 PA1/USART2_RTS/ADC12_IN1/TIM2_CH2 (io), 9 PA2/USART2_TX/ADC12_IN2/TIM2_CH3 (io), 10 PA3/USART2_RX/ADC12_IN3/TIM2_CH4 (io), 11 PA4/SPI1_NSS/USART2_CK/ADC12_IN4 (io), 12 PA5/SPI1_SCK/ADC12_IN5 (io), 13 PA6/SPI1_MISO/ADC12_IN6/TIM3_CH1 (io), 14 PA7/SPI1_MOSI/ADC12_IN7/TIM3_CH2, 15 PB0/ADC12_IN8/TIM3_CH3 (io), 16 PB1/ADC12_IN9/TIM3_CH4 (io), 17 PB2/BOOT1 (io), 18 VSS_1, 19 VDD_1, 20 PA8/USART1_CK/TIM1_CH1/MCO (io), 21 PA9/USART1_TX/TIM1_CH2 (io), 22 PA10/USART1_RX/TIM1_CH3 (io), 23 PA11/USART1_CTS/CANRX/TIM1_CH4/USBDM (io), 24 PA12/USART1_RTS/CANTX /TIM1_ETR/USBDP (io), 25 PA13/JTMS/SWDIO (io), 26 VSS_2, 27 VDD_2, 28 PA14/JTCK/SWCLK, 29 PA15/JTDI (io), 30 PB3/JTDO (io), 31 PB4/JNTRST (io), 32 PB5/I2C1_SMBAl (io), 33 PB6/I2C1_SCL/TIM4_CH1 (io), 34 PB7/I2C1_SDA/TIM4_CH2 (io), 35 BOOT0 (in), 36 VSS_3

## SWITCH1-1-1-R
designator S?, comment Switch
footprint SWITCH1-1-1-R
pins: 1, 2, 3

## TF-Card
designator U?, comment TF卡座
pins: 1 DAT2, 2 CD/DAT3, 3 CMD, 4 VDD, 5 CLK, 6 VSS, 7 DAT0, 8 DAT1, 9 WP, 10 VSS, 11 VSS, 12 VSS, 13 VSS

## THERMAL FUSE
designator F?, comment BLX-A
footprint FUSE2A
footprint FUSE_3A
pins: 1, 2
2 alternate drawings of the same symbol

## TL431
designator U12
footprint SOT23 - 3
pins: 1 CATHODE, 2 REF, 3 ANODE

## TLP521-1
designator *
pins: 1 Anode, 2 Cathode, 3 Emitter, 4 Collector

## TPS40060
designator U?
footprint HTSSOP16-PAD
pins: 1 KFF, 2 RT, 3 BP5, 4 SYNC, 5 SGND, 6 SS/SD, 7 VFB, 8 COMP, 9 PGND, 10 LDRV, 11 BP10, 12 SW, 13 BPN10, 14 HDRV, 15 VIN, 16 ILIM, 17 PGND

## TXS0108E
designator IC
8-BIT BIDIRECTIONAL VOLTAGE-LEVEL TRANSLATOR FOR OPEN-DRAIN AND PUSH-PULL APPLICATIONS
pins: 1 A1 (io), 2 VCCA (power), 3 A2 (io), 4 A3 (io), 5 A4 (io), 6 A5 (io), 7 A6 (io), 8 A7 (io), 9 A8 (io), 10 OE (in), 11 GND (power), 12 B8 (io), 13 B7 (io), 14 B6 (io), 15 B5 (io), 16 B4 (io), 17 B3 (io), 18 B2 (io), 19 VCCB (power), 20 B1 (io)

## USB PORT
designator P?
footprint USB-B
pins: 1 +5V, 2 D-, 3 D+, 4 GND, 5 GND

## XC6202P50
designator U?
pins: 1 Vout, 2 GND, 3 Vin

## XTAL
designator Y?, comment Frequency
Crystal Oscillator; Published: 8-Jun-2000; Revision: July-2002: Re-released for DXP Platform.; Publisher: Altium Limited
footprint XTAL-SM
simulation model XTAL (Spice Subcircuit)
footprint XTAL-RA
pins: 1 OSC1, 2 OSC2

## XTAL-CSTCE-V
designator Y?, comment Frequency
Resonator Oscillator; Published: 8-Jun-2000; Revision: July-2002: Re-released for DXP Platform.; Publisher: Altium Limited
simulation model XTAL (Spice Subcircuit)
footprint XTAL-SM(CSTCE_V) (muRata's resonator use in UP-RobotServo)
pins: 1 OSC1, 2 GND, 3 OSC2

## XTAL-SM
designator *
pins: 1 NC, 2 GND, 3 OUT, 4 VDC

## YX5200-24SS
designator U?
pins: 1 DACL, 2 DACR, 3 VDDIO, 4 VDD, 5 VSS, 6 TX, 7 RX, 8 AUXL, 9 AUXR, 10 GPIOA0, 11 GPIOA1, 12 GPIOA2, 13 GPIOA3, 14 GPIOA4, 15 GPIOA5, 16 GPIOA6, 17 GPIOB4, 18 GPIOB3, 19 GPIOB2, 20 GPIOB1, 21 GPIOB0, 22 NC, 23 VCOM, 24 DACVSS

## ZBMD-2530
designator *
pins: 1 nRESET, 2 P1_1, 3 GND, 4 P1_0, 5 VCC, 6 P0_7, 7 P1_4, 8 P0_6, 9 P1_5, 10 P0_5, 11 P1_6, 12 P0_4, 13 P1_7, 14 P0_3, 15 P2_0, 16 P0_2, 17 P2_1, 18 P0_1, 19 P2_2, 20 P0_0